# Altium footprint library PcbLib1.PcbLib: 6 footprints
Each footprint in its own frame and in the unit in brackets; x right, y up, seen from the top. Pads: shape width x height; smd on the part's side, far side on the other; paste and mask are expansions set on the pad; w line width, h text height; cw(c..) or ccw(c..) is an arc to the next point about the centre after c.
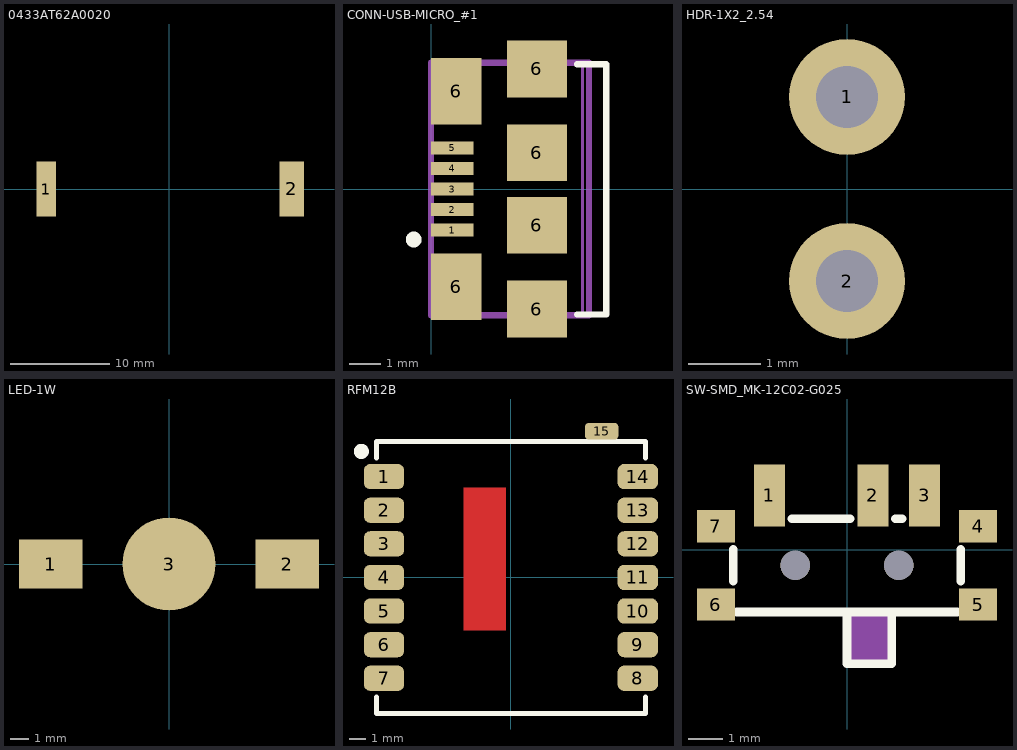
[diagram p0: the footprints below, top view; thin cyan lines are the x and y axes]

## 0433AT62A0020 [mm]
pads (2):
  rect 2x5.5 smd: 1(-12.375,0)
  rect 2.5x5.5 smd: 2(12.375,0)
3D body: height 1.2, standoff 0, extent -12.275,-2.5 12.725,2.5

## CONN-USB-MICRO_#1 [mm] "Connector; USB2.0, Type B, SM; 5 Position; Right Angle"
height 3.9
pads (11):
  rect 1.35x0.4 smd: 1(0.675,-1.3) 2(0.675,-0.65) 3(0.675,0) 4(0.675,0.65) 5(0.675,1.3)
  rect 1.6x2.1 smd: 6(0.8,-3.1) 6(0.8,3.1)
  rect 1.9x1.8 smd: 6(3.35,-3.8) 6(3.35,-1.15) 6(3.35,1.15) 6(3.35,3.8)
Top Overlay:
  circle w0.25: c-0.55,-1.6 r0.125
  lines w0.2: 4.625,-3.975 5.55,-3.975 ; 4.625,3.95 5.55,3.95 5.55,-3.95
Mechanical 1:
  lines w0.1: 4.8,-3.95 4.8,3.95
  text "PCB Edge" at 5.225,-3.7 h0.25
Mechanical 13:
  lines w0.2: 0,-4 5,-4 5,4 0,4 0,-4
3D body "473460001.stp": height 2.69, standoff -0.25, extent 0.35,-3.99 5.78,3.99

## HDR-1X2_2.54 [mm]
height 1.1
pads (2):
  round 1.6 hole 0.85: 1(0,1.27) 2(0,-1.27)

## LED-1W [mm]
pads (3):
  rect 3.5x2.7 smd: 1(-6.55,0) 2(6.55,0)
  round 5.15 smd: 3(0,0)
3D body: height 2, standoff 0, extent -5.75,-0.5 -3.5,0.5
3D body: height 2, standoff 0, extent 3.5,-0.5 5.75,0.5
3D body: height 5.5, standoff 0, extent -4,-4 4,4

## RFM12B [mm]
pads (15):
  rrect50% 2.4x1.5 smd: 1(-7.55,6) 2(-7.55,4) 3(-7.55,2) 4(-7.55,0) 5(-7.55,-2) 6(-7.55,-4) 7(-7.55,-6) 8(7.55,-6) 9(7.55,-4) 10(7.55,-2) 11(7.55,0) 12(7.55,2) 13(7.55,4) 14(7.55,6)
  rrect50% 2x1 smd: 15(5.4,8.7)
Top Layer:
  pour cut-out: -2.8,-3.15 -0.3,-3.15 -0.3,5.35 -2.8,5.35
Top Overlay:
  circle w0.5: c-8.9,7.5 r0.2
  lines w0.3: -8,-7.1 -8,-8.1 8,-8.1 8,-7.1 ; -8,7.1 -8,8.1 8,8.1 8,7.1
3D body "RFM12BS.STEP": height 4.12, standoff -0.03, extent -7.96,-8.05 7.96,8.05

## SW-SMD_MK-12C02-G025 [mm]
pads (9):
  rect 0.9x1.8 smd paste+0 mask+0.051: 1(-2.25,1.583) 2(0.75,1.583) 3(2.25,1.583)
  rect 1.1x0.93 smd paste+0 mask+0.051: 4(3.8,0.687) 5(3.8,-1.583) 6(-3.8,-1.583) 7(-3.8,0.687)
  round 0.85 hole 0.85 unplated paste-2539.97: ""(-1.5,-0.448) ""(1.5,-0.448)
Top Overlay:
  lines w0.254: -3.3,-0.91 -3.3,0.014 ; -3.2,-1.798 3.2,-1.798 ; -1.592,0.902 0.092,0.902 ; 0,-1.798 0,-3.298 1.3,-3.298 1.3,-1.798 ; 1.408,0.902 1.592,0.902 ; 3.3,-0.91 3.3,0.014
Mechanical 15:
  circle w0.4: c-1.5,-0.448 r0.2
  circle w0.4: c1.5,-0.448 r0.2
  region: 0.1,-1.8 0.1,-3.3 1.4,-3.3 1.4,-1.8
3D body: height 1.28, standoff 0.13, extent 0,-3.3 1.3,-1.798
3D body: height 1.4, standoff 0, extent -3.3,-1.798 3.3,0.902